# EAGLE library part S-8232 (library Andrew-Electrical)
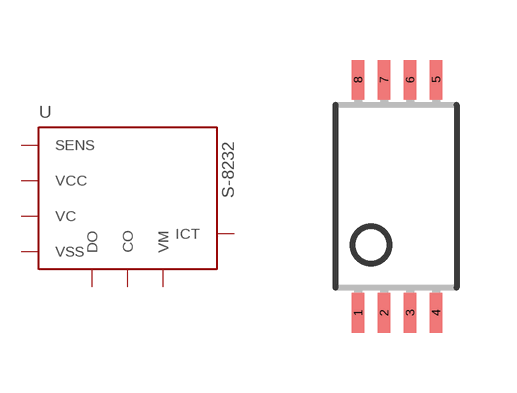
[diagram p1: symbol with the pads of TSSOP8; footprint TSSOP8]

Designator prefix -

## S-8232TSSOP8  [TSSOP8]
1  SENS
2  DO
3  CO
4  VM
5  VSS
6  ICT
7  VC
8  VCC

## Footprint TSSOP8 (pad centres in mm)
Thin Shrink Small Outline Plastic 14
smd 0.305 x 0.991: 1 0.65,0.482; 2 1.3,0.482; 3 1.95,0.482; 4 2.6,0.482; 5 2.6,6.318; 6 1.95,6.318; 7 1.3,6.318; 8 0.65,6.318